# Altium footprint library G02 Library.PcbLib: 13 footprints
Each footprint in its own frame and in the unit in brackets; x right, y up, seen from the top. Pads: shape width x height; smd on the part's side, far side on the other; paste and mask are expansions set on the pad; w line width, h text height; cw(c..) or ccw(c..) is an arc to the next point about the centre after c.
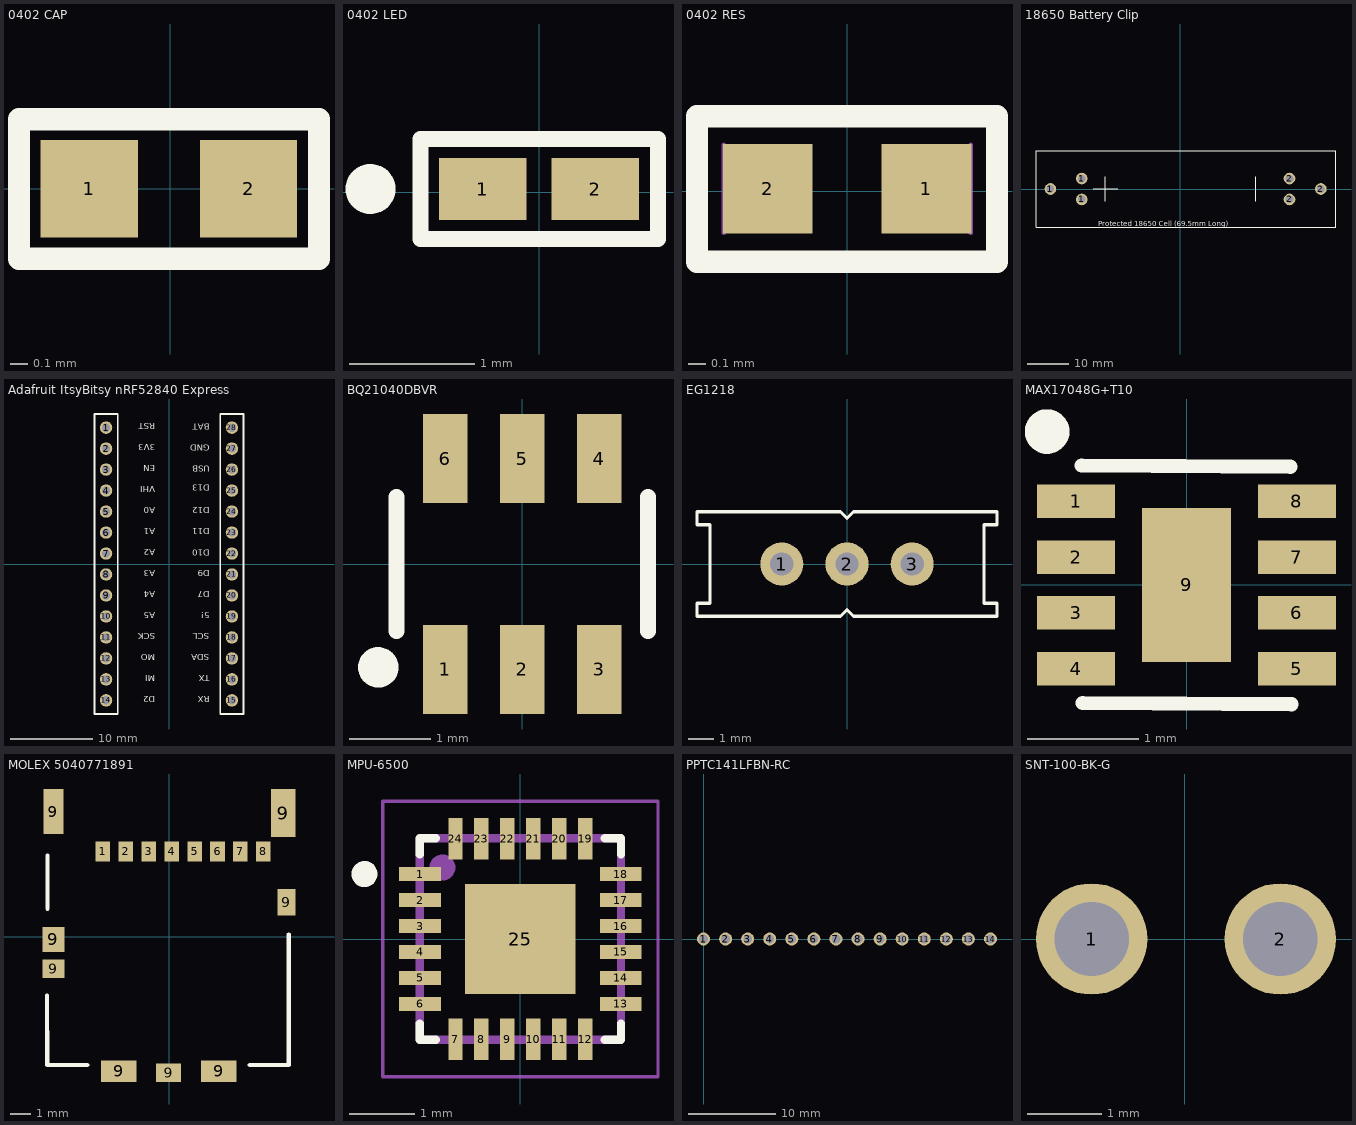
[diagram p0: the footprints below, top view; thin cyan lines are the x and y axes]

## 0402 CAP [mm]
pads (2):
  rect 0.55x0.55 smd mask+0.05: 1(-0.458,0) 2(0.442,0)
Top Overlay:
  lines w0.127: -0.855,-0.395 0.84,-0.395 0.84,0.393 0.437,0.393 -0.437,0.393 -0.855,0.393 -0.855,-0.395
3D body "Ceramic_Capacitor_0402_h20mil.step": height 0.52, standoff 0.01, extent -0.508,-0.245 0.508,0.263

## 0402 LED [mm]
pads (2):
  rect 0.7x0.5 smd: 1(-0.45,0.025) 2(0.45,0.025)
Top Overlay:
  circle w0.2: c-1.35,0.025 r0.1
  lines w0.127: -0.95,-0.375 0.95,-0.375 0.95,-0.187 0.95,0.425 -0.95,0.425 -0.95,-0.375
3D body "User Library-LED-0402 (1).step": height 0.45, standoff 0, extent -0.505,-0.225 0.505,0.275

## 0402 RES [mil]
pads (2):
  rect 20x20 smd: 1(17.74,0.51) 2(-17.7,0.51)
Top Overlay:
  lines w5: -33.46,-15.75 -33.46,16.73 33.46,16.73 33.46,-15.75 -33.46,-15.75
Bottom Assembly:
  lines w1: -27.54,-9.33 -27.54,10.35 ; 27.58,-9.33 27.58,10.35
3D body "Resistor_0402.step": height 14.17, standoff 0.39, extent -19.79,-9.24 20.21,10.76

## 18650 Battery Clip [mm]
pads (6):
  round 2.83 hole 1.83: 1(-31.62,0) 1(-24,-2.54) 1(-24,2.54) 2(26.5,-2.54) 2(26.5,2.54) 2(34.12,0)
Top Overlay:
  lines w0.254: -35.125,-9.3 35.125,-9.3 37.8,-9.3 37.8,1.975 37.8,9.3 -35.125,9.3 -35.125,-9.275 ; -21.25,0 -15.25,0 ; -18.25,-3 -18.25,3 ; 18.248,-2.995 18.248,3.005
  text "Protected 18650 Cell (69.5mm Long)" at -20,-9 h1.27
3D body "KEYELCO_54.STEP": height 18.16, standoff -3.05, extent -35.28,-9.443 -22.273,9.444
3D body "KEYELCO_54.STEP": height 18.16, standoff -3.05, extent 24.913,-9.444 37.92,9.443
3D body "Battery.step": height 19.7, standoff 1.5, extent -31.35,-9.014 34.65,9.175

## (WIP) Larger 18650 Holder [mm]
3D body "BK-18650-PC2.STEP": height 24.71, standoff 0, extent -39.855,-21.89 37.105,-0.91
3D body "Battery.step": height 24.1, standoff 5.9, extent -34.5,-21.575 31.5,-3.386

## Adafruit ItsyBitsy nRF52840 Express [mm] "Adafruit ItsyBitsy nRF52840 Express"
pads (28):
  round 1.5 hole 1: 1(-7.62,16.51) 2(-7.62,13.97) 3(-7.62,11.43) 4(-7.62,8.89) 5(-7.62,6.35) 6(-7.62,3.81) 7(-7.62,1.27) 8(-7.62,-1.27) 9(-7.62,-3.81) 10(-7.62,-6.35) 11(-7.62,-8.89) 12(-7.62,-11.43) 13(-7.62,-13.97) 14(-7.62,-16.51) 15(7.62,-16.51) 16(7.62,-13.97) 17(7.62,-11.43) 18(7.62,-8.89) 19(7.62,-6.35) 20(7.62,-3.81) 21(7.62,-1.27) 22(7.62,1.27) 23(7.62,3.81) 24(7.62,6.35) 25(7.62,8.89) 26(7.62,11.43) 27(7.62,13.97) 28(7.62,16.51)
Top Overlay:
  lines w0.2: -9.017,-18.161 -6.223,-18.161 -6.223,18.161 -9.017,18.161 -9.017,-18.161 ; 6.223,-18.161 9.017,-18.161 9.017,18.161 6.223,18.161 6.223,-18.161
  text "SCL" at 4.9,-8.4 h0.76
  text "5!" at 4.925,-5.85 h0.76
  text "D10" at 4.925,1.75 h0.76
  text "D2" at -1.675,-16 h0.76
  text "MI" at -1.675,-13.45 h0.76
  text "MO" at -1.675,-10.9 h0.76
  text "SCK" at -1.675,-8.375 h0.76
  text "A3" at -1.675,-0.75 h0.76
  text "A2" at -1.675,1.8 h0.76
  text "VHI" at -1.675,9.4 h0.76
  text "EN" at -1.675,11.95 h0.76
  text "A5" at -1.675,-5.825 h0.76
  text "A4" at -1.675,-3.3 h0.76
  text "A1" at -1.675,4.325 h0.76
  text "A0" at -1.675,6.875 h0.76
  text "3V3" at -1.675,14.5 h0.76
  text "RST" at -1.675,17.025 h0.76
  text "BAT" at 4.925,17 h0.76
  text "GND" at 4.925,14.45 h0.76
  text "D11" at 4.925,4.3 h0.76
  text "D12" at 4.925,6.85 h0.76
  text "D7" at 4.925,-3.325 h0.76
  text "RX" at 4.925,-16.025 h0.76
  text "TX" at 4.925,-13.475 h0.76
  text "USB" at 4.925,11.925 h0.76
  text "D13" at 4.925,9.625 h0.76
  text "D9" at 4.925,-0.775 h0.76
  text "SDA" at 4.9,-10.95 h0.76
3D body "_ _ _C141LFBN-RC.STEP": height 8.5, standoff -3.2, extent -8.89,-18.03 -6.35,18.03
3D body "_ _ _C141LFBN-RC.STEP": height 8.5, standoff -3.2, extent 6.35,-18.03 8.89,18.03
3D body "itsyBitsy nRF52840.step": height 12.89, standoff 7.15, extent -8.925,-17.833 8.855,18.383

## BQ21040DBVR [mm]
pads (6):
  rect 0.55x1.1 smd: 1(-0.95,-1.3) 2(0,-1.3) 3(0.95,-1.3) 4(0.95,1.3) 5(0,1.3) 6(-0.95,1.3)
Top Overlay:
  circle w0.25: c-1.775,-1.275 r0.125
  lines w0.2: -1.55,-0.825 -1.55,0.825 ; 1.55,-0.825 1.55,0.825
3D body "User Library-ZXTC2045E6TA.step": height 1.4, standoff 0, extent -1.55,-1.5 1.55,1.5

## EG1218 [mil]
pads (3):
  round 66 hole 35.43: 1(-100,0) 2(0,0) 3(100,0)
Top Overlay:
  lines w5: -230,-80 -230,-60 -210,-60 -210,60 -230,60 -230,80 -10,80 0,70 10,80 230,80 230,60 210,60 210,-60 230,-60 230,-80 10,-80 0,-70 -10,-80 -230,-80
3D body "EG1218.stp": height 275.59, standoff -200.79, extent -228.34,-79.72 228.35,77.76

## MAX17048G+T10 [mm]
pads (9):
  rect 0.7x0.3 smd: 1(-0.99,0.75) 2(-0.99,0.25) 3(-0.99,-0.25) 4(-0.99,-0.75) 5(0.99,-0.75) 6(0.99,-0.25) 7(0.99,0.25) 8(0.99,0.75)
  rect 0.8x1.38 smd: 9(0,0)
Top Overlay:
  circle w0.2: c-1.25,1.375 r0.1
  lines w0.127: -0.94,1.07 0.93,1.06 ; -0.93,-1.06 0.94,-1.07
3D body: height 0.75, standoff 0, extent -1,-1 1,1

## MOLEX 5040771891 [mm]
pads (16):
  rect 0.7x0.95 smd: 1(-3.195,4.1) 2(-2.095,4.1) 3(-0.995,4.1) 4(0.105,4.1) 5(1.205,4.1) 6(2.305,4.1) 7(3.405,4.1) 8(4.505,4.1)
  rect 0.95x2.17 smd: 9(-5.57,6.01)
  rect 1.05x0.9 smd: 9(-5.565,-1.525)
  rect 1.05x1.2 smd: 9(-5.565,-0.115)
  rect 1.7x1.03 smd: 9(-2.44,-6.45) 9(2.36,-6.45)
  rect 1.2x0.88 smd: 9(-0.04,-6.525)
  rect 1.19x2.3 smd: 9(5.46,5.935)
  rect 0.88x1.25 smd: 9(5.615,1.66)
Top Overlay:
  lines w0.2: -5.87,-2.81 -5.865,-6.15 -3.945,-6.15 ; -5.86,1.345 -5.86,3.9 ; 3.855,-6.15 5.72,-6.15 5.72,0.11
3D body "5040771891.stp": height 1.26, standoff -0.02, extent -5.76,-6.65 5.62,6.85

## MPU-6500 [mm]
pads (25):
  rect 0.64x0.22 smd: 1(-1.545,1) 2(-1.545,0.6) 3(-1.545,0.2) 4(-1.545,-0.2) 5(-1.545,-0.6) 6(-1.545,-1) 13(1.545,-1) 14(1.545,-0.6) 15(1.545,-0.2) 16(1.545,0.2) 17(1.545,0.6) 18(1.545,1)
  rect 0.22x0.64 smd: 7(-1,-1.545) 8(-0.6,-1.545) 9(-0.2,-1.545) 10(0.2,-1.545) 11(0.6,-1.545) 12(1,-1.545) 19(1,1.545) 20(0.6,1.545) 21(0.2,1.545) 22(-0.2,1.545) 23(-0.6,1.545) 24(-1,1.545)
  rect 1.7x1.7 smd: 25(0,0)
Top Overlay:
  circle w0.2: c-2.4,1 r0.1
  lines w0.127: -1.55,-1.3 -1.55,-1.55 -1.3,-1.55 ; -1.55,1.3 -1.55,1.55 -1.3,1.55 ; 1.3,-1.55 1.55,-1.55 1.55,-1.3 ; 1.3,1.55 1.55,1.55 1.55,1.3
Mechanical 13:
  circle w0.2: c-1.2,1.1 r0.1
  lines w0.127: -1.55,-1.55 1.55,-1.55 1.55,1.55 -1.55,1.55 -1.55,-1.55
Mechanical 15:
  lines w0.05: -2.12,-2.12 2.12,-2.12 2.12,2.12 -2.12,2.12 -2.12,-2.12
3D body: height 0.9, standoff 0, extent -1.5,-1.5 1.5,1.5

## PPTC141LFBN-RC [mm] "PPTC141LFBN-RC"
pads (14):
  round 1.5 hole 1: 1(0,0) 2(2.54,0) 3(5.08,0) 4(7.62,0) 5(10.16,0) 6(12.7,0) 7(15.24,0) 8(17.78,0) 9(20.32,0) 10(22.86,0) 11(25.4,0) 12(27.94,0) 13(30.48,0) 14(33.02,0)
3D body "_ _ _C141LFBN-RC.STEP": height 8.5, standoff -3.2, extent -1.52,-1.27 34.54,1.27

## SNT-100-BK-G [mm]
pads (2):
  round 1.5 hole 1: 1(-1.25,0) 2(1.29,0)
3D body "77311-y18-02_asm.stp": height 8.4, standoff -3.1, extent -2.34,-1.225 2.34,1.185
3D body "SNT-100-BK-G.stp": height 8.6, standoff 2.5, extent -2.54,-1.295 2.54,1.245